# Altium integrated library Maxim Sensors.IntLib: 1171 symbols (part 14 of 61)
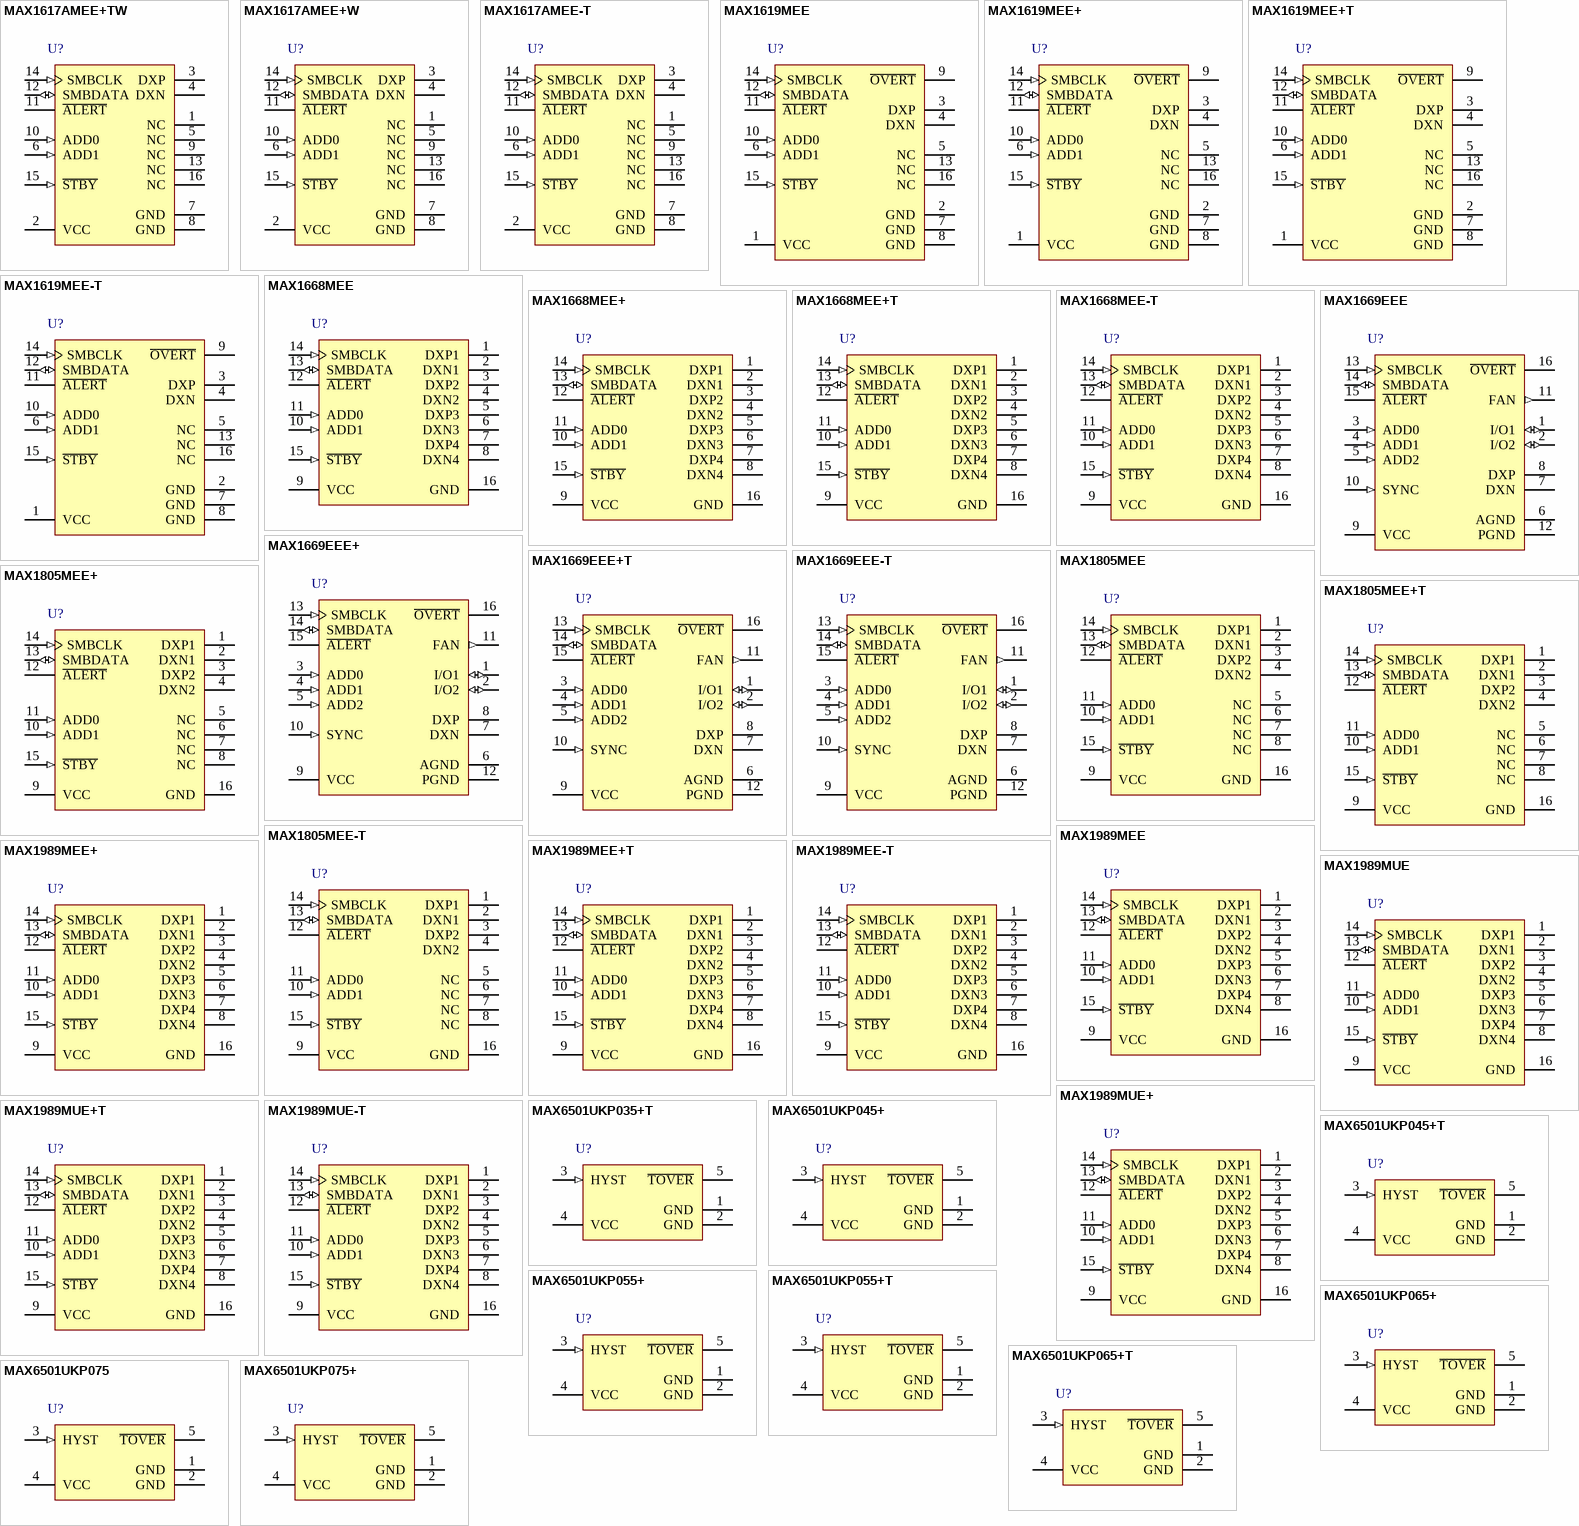
[diagram p46: symbols MAX1617AMEE+TW to MAX6501UKP075+]

## MAX1619MEE+
designator U?
Remote / Local Temperature Sensor with Dual-Alarm Outputs and SMBus Serial Interface, 8 Bits Temperature Resolution, -55 to 125 degC, 16-Pin SOP (E16+5), Pb-Free; Generic Part Number: MAX1619; PartNumber: MAX1619MEE+; Alarm Output: Alert, Overt; Functions: Remote & Local Sensor; Interface: 2-Wire/I2C/SMBus; Parasite Pwr.: No; DatasheetVersion: Rev. 0; PackageVersion: Rev. K, 04/2012; PackageReference: E16+5; PackageDescription: 16-Pin Quarter Small-Outline Package, Body 3.9 x 4.89 mm, Pitch 0.635 mm; Supplier 1: Digi-Key; Supplier Part Number 1: MAX1619MEE+-ND; Supplier 2: Mouser; Supplier Part Number 2: 700-MAX1619MEE+; Mounting Technology: Surface Mount; Code_JEDEC: MO-137; ComponentLink1Description: Manufacturer URL; ComponentLink1URL: http://www.maximintegrated.com/; ComponentLink2Description: Datasheet; ComponentLink2URL: http://datasheets.maximintegrated.com/en/ds/MAX1619.pdf; ComponentLink3Description: Package Specification; ComponentLink3URL: http://pdfserv.maximintegrated.com/package_dwgs/21-0055.PDF
footprint MAXM-E16+5_N (SOP, 16-Leads, Body 4.89x3.9mm, Pitch 0.635mm, IPC Medium Density)
footprint MAXM-E16+5_L (SOP, 16-Leads, Body 4.89x3.9mm, Pitch 0.635mm, IPC High Density)
footprint MAXM-E16+5_M (SOP, 16-Leads, Body 4.89x3.9mm, Pitch 0.635mm, IPC Low Density)
pins: 1 VCC (power) "Supply Voltage Input, 3V to 5.5V. Bypass to GND with a 0.1uF capacitor. A 200Ohm series resistor is recommended but not required for additional noise filtering.", 2 GND (power) "Not internally connected. Connect to GND to act against leakage paths from VCC to DXP.", 3 DXP "Combined Current Source and A/D Positive Input for Remote-Diode Channel. Do not leave DXP floating; connect DXP to DXN if no remote diode is used. Place a 2200pF capacitor between DXP and DXN for noise filtering.", 4 DXN "Combined Current Sink and A/D Negative Input. DXN is normally internally biased to a diode voltage above ground.", 5 NC "No Connection. Not internally connected. May be used for PC board trace routing.", 6 ADD1 (in) "SMBus Address Select Pin (Table 8). ADD0 and ADD1 are sampled upon power-up. Excess capacitance (>50pF) at the address pins when floating may cause address-recognition problems.", 7 GND (power) "Ground", 8 GND (power) "Ground", 9 ~{OVERT} (oc) "Overtemperature Alarm Output, Open Drain. This is an unlatched alarm output that responds only to the remote diode temperature.", 10 ADD0 (in) "SMBus Slave Address Select Pin", 11 ~{ALERT} (oc) "SMBus Alert (interrupt) Output, Open Drain", 12 SMBDATA (io) "SMBus Serial-Data Input/Output, Open Drain", 13 NC "No Connection. Not internally connected. May be used for PC board trace routing.", 14 SMBCLK (in) "SMBus Serial-Clock Input", 15 ~{STBY} (in) "Hardware Standby Input. Temperature and comparison threshold data are retained in standby mode.Low = standby mode, high = operate mode.", 16 NC "No Connection. Not internally connected. May be used for PC board trace routing."

## MAX1619MEE+T
designator U?
Remote / Local Temperature Sensor with Dual-Alarm Outputs and SMBus Serial Interface, 8 Bits Temperature Resolution, -55 to 125 degC, 16-Pin SOP (E16+5), Pb-Free, Tape and Reel; Generic Part Number: MAX1619; PartNumber: MAX1619MEE+T; Alarm Output: Alert, Overt; Functions: Remote & Local Sensor; Interface: 2-Wire/I2C/SMBus; Parasite Pwr.: No; DatasheetVersion: Rev. 0; PackageVersion: Rev. K, 04/2012; PackageReference: E16+5; PackageDescription: 16-Pin Quarter Small-Outline Package, Body 3.9 x 4.89 mm, Pitch 0.635 mm; Supplier 1: Digi-Key; Supplier Part Number 1: MAX1619MEE+T-ND; Supplier 2: Mouser; Supplier Part Number 2: 700-MAX1619MEE+T; Packing: Tape and Reel; Mounting Technology: Surface Mount; Code_JEDEC: MO-137; ComponentLink1Description: Manufacturer URL; ComponentLink1URL: http://www.maximintegrated.com/; ComponentLink2Description: Datasheet; ComponentLink2URL: http://datasheets.maximintegrated.com/en/ds/MAX1619.pdf; ComponentLink3Description: Package Specification; ComponentLink3URL: http://pdfserv.maximintegrated.com/package_dwgs/21-0055.PDF
footprint MAXM-E16+5_N (SOP, 16-Leads, Body 4.89x3.9mm, Pitch 0.635mm, IPC Medium Density)
footprint MAXM-E16+5_L (SOP, 16-Leads, Body 4.89x3.9mm, Pitch 0.635mm, IPC High Density)
footprint MAXM-E16+5_M (SOP, 16-Leads, Body 4.89x3.9mm, Pitch 0.635mm, IPC Low Density)
pins: 1 VCC (power) "Supply Voltage Input, 3V to 5.5V. Bypass to GND with a 0.1uF capacitor. A 200Ohm series resistor is recommended but not required for additional noise filtering.", 2 GND (power) "Not internally connected. Connect to GND to act against leakage paths from VCC to DXP.", 3 DXP "Combined Current Source and A/D Positive Input for Remote-Diode Channel. Do not leave DXP floating; connect DXP to DXN if no remote diode is used. Place a 2200pF capacitor between DXP and DXN for noise filtering.", 4 DXN "Combined Current Sink and A/D Negative Input. DXN is normally internally biased to a diode voltage above ground.", 5 NC "No Connection. Not internally connected. May be used for PC board trace routing.", 6 ADD1 (in) "SMBus Address Select Pin (Table 8). ADD0 and ADD1 are sampled upon power-up. Excess capacitance (>50pF) at the address pins when floating may cause address-recognition problems.", 7 GND (power) "Ground", 8 GND (power) "Ground", 9 ~{OVERT} (oc) "Overtemperature Alarm Output, Open Drain. This is an unlatched alarm output that responds only to the remote diode temperature.", 10 ADD0 (in) "SMBus Slave Address Select Pin", 11 ~{ALERT} (oc) "SMBus Alert (interrupt) Output, Open Drain", 12 SMBDATA (io) "SMBus Serial-Data Input/Output, Open Drain", 13 NC "No Connection. Not internally connected. May be used for PC board trace routing.", 14 SMBCLK (in) "SMBus Serial-Clock Input", 15 ~{STBY} (in) "Hardware Standby Input. Temperature and comparison threshold data are retained in standby mode.Low = standby mode, high = operate mode.", 16 NC "No Connection. Not internally connected. May be used for PC board trace routing."

## MAX1619MEE-T
designator U?
Remote / Local Temperature Sensor with Dual-Alarm Outputs and SMBus Serial Interface, 8 Bits Temperature Resolution, -55 to 125 degC, 16-Pin SOP (E16-5), Tape and Reel; Generic Part Number: MAX1619; PartNumber: MAX1619MEE-T; Alarm Output: Alert, Overt; Functions: Remote & Local Sensor; Interface: 2-Wire/I2C/SMBus; Parasite Pwr.: No; DatasheetVersion: Rev. 0; PackageVersion: Rev. K, 04/2012; PackageReference: E16-5; PackageDescription: 16-Pin Quarter Small-Outline Package, Body 3.9 x 4.89 mm, Pitch 0.635 mm; Supplier 1: Mouser; Supplier Part Number 1: N/A; Packing: Tape and Reel; Mounting Technology: Surface Mount; Code_JEDEC: MO-137; ComponentLink1Description: Manufacturer URL; ComponentLink1URL: http://www.maximintegrated.com/; ComponentLink2Description: Datasheet; ComponentLink2URL: http://datasheets.maximintegrated.com/en/ds/MAX1619.pdf; ComponentLink3Description: Package Specification; ComponentLink3URL: http://pdfserv.maximintegrated.com/package_dwgs/21-0055.PDF
footprint MAXM-E16-5_N (SOP, 16-Leads, Body 4.89x3.9mm, Pitch 0.635mm, IPC Medium Density)
footprint MAXM-E16-5_L (SOP, 16-Leads, Body 4.89x3.9mm, Pitch 0.635mm, IPC High Density)
footprint MAXM-E16-5_M (SOP, 16-Leads, Body 4.89x3.9mm, Pitch 0.635mm, IPC Low Density)
pins: 1 VCC (power) "Supply Voltage Input, 3V to 5.5V. Bypass to GND with a 0.1uF capacitor. A 200Ohm series resistor is recommended but not required for additional noise filtering.", 2 GND (power) "Not internally connected. Connect to GND to act against leakage paths from VCC to DXP.", 3 DXP "Combined Current Source and A/D Positive Input for Remote-Diode Channel. Do not leave DXP floating; connect DXP to DXN if no remote diode is used. Place a 2200pF capacitor between DXP and DXN for noise filtering.", 4 DXN "Combined Current Sink and A/D Negative Input. DXN is normally internally biased to a diode voltage above ground.", 5 NC "No Connection. Not internally connected. May be used for PC board trace routing.", 6 ADD1 (in) "SMBus Address Select Pin (Table 8). ADD0 and ADD1 are sampled upon power-up. Excess capacitance (>50pF) at the address pins when floating may cause address-recognition problems.", 7 GND (power) "Ground", 8 GND (power) "Ground", 9 ~{OVERT} (oc) "Overtemperature Alarm Output, Open Drain. This is an unlatched alarm output that responds only to the remote diode temperature.", 10 ADD0 (in) "SMBus Slave Address Select Pin", 11 ~{ALERT} (oc) "SMBus Alert (interrupt) Output, Open Drain", 12 SMBDATA (io) "SMBus Serial-Data Input/Output, Open Drain", 13 NC "No Connection. Not internally connected. May be used for PC board trace routing.", 14 SMBCLK (in) "SMBus Serial-Clock Input", 15 ~{STBY} (in) "Hardware Standby Input. Temperature and comparison threshold data are retained in standby mode.Low = standby mode, high = operate mode.", 16 NC "No Connection. Not internally connected. May be used for PC board trace routing."

## MAX1668MEE
designator U?
Five-Channel Temperature Sensor with SMBus Serial Interface, 8 Bits Temperature Resolution, -55 to 125 degC, 16-Pin SOP (E16-1); Generic Part Number: MAX1668; PartNumber: MAX1668MEE; Alarm Output: Alert; Functions: Remote & Local Sensor; Interface: 2-Wire/I2C/SMBus; Parasite Pwr.: No; DatasheetVersion: Rev. 2; PackageVersion: Rev. K, 04/2012; PackageReference: E16-1; PackageDescription: 16-Pin Quarter Small-Outline Package (E16-1), Body 4.90 x 3.89 mm, Pitch 0.635 mm; Supplier 1: Digi-Key; Supplier Part Number 1: MAX1668MEE-ND; Supplier 2: Mouser; Supplier Part Number 2: N/A; Mounting Technology: Surface Mount; Code_JEDEC: MO137; ComponentLink1Description: Manufacturer URL; ComponentLink1URL: http://www.maximintegrated.com/; ComponentLink2Description: Datasheet; ComponentLink2URL: http://datasheets.maximintegrated.com/en/ds/MAX1668-MAX1989.pdf; ComponentLink3Description: Package Specification; ComponentLink3URL: http://pdfserv.maximintegrated.com/package_dwgs/21-0055.PDF
footprint MAXM-E16-1_N (SOP, 16-Leads, Body 4.9x3.89mm, Pitch 0.635mm, IPC Medium Density)
footprint MAXM-E16-1_L (SOP, 16-Leads, Body 4.9x3.89mm, Pitch 0.635mm, IPC High Density)
footprint MAXM-E16-1_M (SOP, 16-Leads, Body 4.9x3.89mm, Pitch 0.635mm, IPC Low Density)
pins: 1 DXP1 "Combined Current Source and A/D Positive Input for Remote-Diode Channel. Do not leave DXP floating; connect DXP to DXN if no remote diode is used. Place a 2200pF capacitor between DXP and DXN for noise filtering.", 2 DXN1 "Combined Current Sink and A/D Negative Input. DXN is normally biased to a diode voltage above ground.", 3 DXP2 "Combined Current Source and A/D Positive Input for Remote-Diode Channel. Do not leave DXP floating; connect DXP to DXN if no remote diode is used. Place a 2200pF capacitor between DXP and DXN for noise filtering.", 4 DXN2 "Combined Current Sink and A/D Negative Input. DXN is normally biased to a diode voltage above ground.", 5 DXP3 "Combined Current Source and A/D Positive Input for Remote-Diode Channel. Do not leave DXP floating; connect DXP to DXN if no remote diode is used. Place a 2200pF capacitor between DXP and DXN for noise filtering.", 6 DXN3 "Combined Current Sink and A/D Negative Input. DXN is normally biased to a diode voltage above ground.", 7 DXP4 "Combined Current Source and A/D Positive Input for Remote-Diode Channel. Do not leave DXP floating; connect DXP to DXN if no remote diode is used. Place a 2200pF capacitor between DXP and DXN for noise filtering.", 8 DXN4 "Combined Current Sink and A/D Negative Input. DXN is normally biased to a diode voltage above ground.", 9 VCC (power) "Supply Voltage Input, 3V to 5.5V. Bypass to GND with a 0.1µF capacitor. A 200ohm series resistor is recommended but not required for additional noise filtering.", 10 ADD1 (in) "SMBus Address Select Pin (Table 8). ADD0 and ADD1 are sampled upon power-up. Excess capacitance (>50pF) at the address pins when floating can cause addressrecognition problems.", 11 ADD0 (in) "SMBus Slave Address Select Pin", 12 ~{ALERT} (oc) "SMBus Alert (Interrupt) Output, Open Drain", 13 SMBDATA (io) "SMBus Serial-Data Input/Output, Open Drain", 14 SMBCLK (in) "SMBus Serial-Clock Input", 15 ~{STBY} (in) "Hardware Standby Input. Temperature and comparison threshold data are retained in standby mode. Low = standby mode, high = operate mode.", 16 GND (power) "Ground"

## MAX1668MEE+
designator U?
Five-Channel Temperature Sensor with SMBus Serial Interface, 8 Bits Temperature Resolution, -55 to 125 degC, 16-Pin SOP (E16+1), Pb-Free; Generic Part Number: MAX1668; PartNumber: MAX1668MEE+; Alarm Output: Alert; Functions: Remote & Local Sensor; Interface: 2-Wire/I2C/SMBus; Parasite Pwr.: No; DatasheetVersion: Rev. 2; PackageVersion: Rev. K, 04/2012; PackageReference: E16+1; PackageDescription: 16-Pin Quarter Small-Outline Package (E16+1), Body 4.90 x 3.89 mm, Pitch 0.635 mm; Supplier 1: Digi-Key; Supplier Part Number 1: MAX1668MEE+-ND; Supplier 2: Mouser; Supplier Part Number 2: 700-MAX1668MEE; Mounting Technology: Surface Mount; Code_JEDEC: MO137; ComponentLink1Description: Manufacturer URL; ComponentLink1URL: http://www.maximintegrated.com/; ComponentLink2Description: Datasheet; ComponentLink2URL: http://datasheets.maximintegrated.com/en/ds/MAX1668-MAX1989.pdf; ComponentLink3Description: Package Specification; ComponentLink3URL: http://pdfserv.maximintegrated.com/package_dwgs/21-0055.PDF
footprint MAXM-E16+1_N (SOP, 16-Leads, Body 4.9x3.89mm, Pitch 0.635mm, IPC Medium Density)
footprint MAXM-E16+1_L (SOP, 16-Leads, Body 4.9x3.89mm, Pitch 0.635mm, IPC High Density)
footprint MAXM-E16+1_M (SOP, 16-Leads, Body 4.9x3.89mm, Pitch 0.635mm, IPC Low Density)
pins: 1 DXP1 "Combined Current Source and A/D Positive Input for Remote-Diode Channel. Do not leave DXP floating; connect DXP to DXN if no remote diode is used. Place a 2200pF capacitor between DXP and DXN for noise filtering.", 2 DXN1 "Combined Current Sink and A/D Negative Input. DXN is normally biased to a diode voltage above ground.", 3 DXP2 "Combined Current Source and A/D Positive Input for Remote-Diode Channel. Do not leave DXP floating; connect DXP to DXN if no remote diode is used. Place a 2200pF capacitor between DXP and DXN for noise filtering.", 4 DXN2 "Combined Current Sink and A/D Negative Input. DXN is normally biased to a diode voltage above ground.", 5 DXP3 "Combined Current Source and A/D Positive Input for Remote-Diode Channel. Do not leave DXP floating; connect DXP to DXN if no remote diode is used. Place a 2200pF capacitor between DXP and DXN for noise filtering.", 6 DXN3 "Combined Current Sink and A/D Negative Input. DXN is normally biased to a diode voltage above ground.", 7 DXP4 "Combined Current Source and A/D Positive Input for Remote-Diode Channel. Do not leave DXP floating; connect DXP to DXN if no remote diode is used. Place a 2200pF capacitor between DXP and DXN for noise filtering.", 8 DXN4 "Combined Current Sink and A/D Negative Input. DXN is normally biased to a diode voltage above ground.", 9 VCC (power) "Supply Voltage Input, 3V to 5.5V. Bypass to GND with a 0.1µF capacitor. A 200ohm series resistor is recommended but not required for additional noise filtering.", 10 ADD1 (in) "SMBus Address Select Pin (Table 8). ADD0 and ADD1 are sampled upon power-up. Excess capacitance (>50pF) at the address pins when floating can cause addressrecognition problems.", 11 ADD0 (in) "SMBus Slave Address Select Pin", 12 ~{ALERT} (oc) "SMBus Alert (Interrupt) Output, Open Drain", 13 SMBDATA (io) "SMBus Serial-Data Input/Output, Open Drain", 14 SMBCLK (in) "SMBus Serial-Clock Input", 15 ~{STBY} (in) "Hardware Standby Input. Temperature and comparison threshold data are retained in standby mode. Low = standby mode, high = operate mode.", 16 GND (power) "Ground"

## MAX1668MEE+T
designator U?
Five-Channel Temperature Sensor with SMBus Serial Interface, 8 Bits Temperature Resolution, -55 to 125 degC, 16-Pin SOP (E16+1), Pb-Free, Tape and Reel; Generic Part Number: MAX1668; PartNumber: MAX1668MEE+T; Alarm Output: Alert; Functions: Remote & Local Sensor; Interface: 2-Wire/I2C/SMBus; Parasite Pwr.: No; DatasheetVersion: Rev. 2; PackageVersion: Rev. K, 04/2012; PackageReference: E16+1; PackageDescription: 16-Pin Quarter Small-Outline Package (E16+1), Body 4.90 x 3.89 mm, Pitch 0.635 mm; Supplier 1: Digi-Key; Supplier Part Number 1: MAX1668MEE+T-ND; Supplier 2: Mouser; Supplier Part Number 2: 700-MAX1668MEET; Packing: Tape and Reel; Mounting Technology: Surface Mount; Code_JEDEC: MO137; ComponentLink1Description: Manufacturer URL; ComponentLink1URL: http://www.maximintegrated.com/; ComponentLink2Description: Datasheet; ComponentLink2URL: http://datasheets.maximintegrated.com/en/ds/MAX1668-MAX1989.pdf; ComponentLink3Description: Package Specification; ComponentLink3URL: http://pdfserv.maximintegrated.com/package_dwgs/21-0055.PDF
footprint MAXM-E16+1_N (SOP, 16-Leads, Body 4.9x3.89mm, Pitch 0.635mm, IPC Medium Density)
footprint MAXM-E16+1_L (SOP, 16-Leads, Body 4.9x3.89mm, Pitch 0.635mm, IPC High Density)
footprint MAXM-E16+1_M (SOP, 16-Leads, Body 4.9x3.89mm, Pitch 0.635mm, IPC Low Density)
pins: 1 DXP1 "Combined Current Source and A/D Positive Input for Remote-Diode Channel. Do not leave DXP floating; connect DXP to DXN if no remote diode is used. Place a 2200pF capacitor between DXP and DXN for noise filtering.", 2 DXN1 "Combined Current Sink and A/D Negative Input. DXN is normally biased to a diode voltage above ground.", 3 DXP2 "Combined Current Source and A/D Positive Input for Remote-Diode Channel. Do not leave DXP floating; connect DXP to DXN if no remote diode is used. Place a 2200pF capacitor between DXP and DXN for noise filtering.", 4 DXN2 "Combined Current Sink and A/D Negative Input. DXN is normally biased to a diode voltage above ground.", 5 DXP3 "Combined Current Source and A/D Positive Input for Remote-Diode Channel. Do not leave DXP floating; connect DXP to DXN if no remote diode is used. Place a 2200pF capacitor between DXP and DXN for noise filtering.", 6 DXN3 "Combined Current Sink and A/D Negative Input. DXN is normally biased to a diode voltage above ground.", 7 DXP4 "Combined Current Source and A/D Positive Input for Remote-Diode Channel. Do not leave DXP floating; connect DXP to DXN if no remote diode is used. Place a 2200pF capacitor between DXP and DXN for noise filtering.", 8 DXN4 "Combined Current Sink and A/D Negative Input. DXN is normally biased to a diode voltage above ground.", 9 VCC (power) "Supply Voltage Input, 3V to 5.5V. Bypass to GND with a 0.1µF capacitor. A 200ohm series resistor is recommended but not required for additional noise filtering.", 10 ADD1 (in) "SMBus Address Select Pin (Table 8). ADD0 and ADD1 are sampled upon power-up. Excess capacitance (>50pF) at the address pins when floating can cause addressrecognition problems.", 11 ADD0 (in) "SMBus Slave Address Select Pin", 12 ~{ALERT} (oc) "SMBus Alert (Interrupt) Output, Open Drain", 13 SMBDATA (io) "SMBus Serial-Data Input/Output, Open Drain", 14 SMBCLK (in) "SMBus Serial-Clock Input", 15 ~{STBY} (in) "Hardware Standby Input. Temperature and comparison threshold data are retained in standby mode. Low = standby mode, high = operate mode.", 16 GND (power) "Ground"

## MAX1668MEE-T
designator U?
Five-Channel Temperature Sensor with SMBus Serial Interface, 8 Bits Temperature Resolution, -55 to 125 degC, 16-Pin SOP (E16-1), Tape and Reel; Generic Part Number: MAX1668; PartNumber: MAX1668MEE-T; Alarm Output: Alert; Functions: Remote & Local Sensor; Interface: 2-Wire/I2C/SMBus; Parasite Pwr.: No; DatasheetVersion: Rev. 2; PackageVersion: Rev. K, 04/2012; PackageReference: E16-1; PackageDescription: 16-Pin Quarter Small-Outline Package (E16-1), Body 4.90 x 3.89 mm, Pitch 0.635 mm; Supplier 1: Mouser; Supplier Part Number 1: N/A; Packing: Tape and Reel; Mounting Technology: Surface Mount; Code_JEDEC: MO137; ComponentLink1Description: Manufacturer URL; ComponentLink1URL: http://www.maximintegrated.com/; ComponentLink2Description: Datasheet; ComponentLink2URL: http://datasheets.maximintegrated.com/en/ds/MAX1668-MAX1989.pdf; ComponentLink3Description: Package Specification; ComponentLink3URL: http://pdfserv.maximintegrated.com/package_dwgs/21-0055.PDF
footprint MAXM-E16-1_N (SOP, 16-Leads, Body 4.9x3.89mm, Pitch 0.635mm, IPC Medium Density)
footprint MAXM-E16-1_L (SOP, 16-Leads, Body 4.9x3.89mm, Pitch 0.635mm, IPC High Density)
footprint MAXM-E16-1_M (SOP, 16-Leads, Body 4.9x3.89mm, Pitch 0.635mm, IPC Low Density)
pins: 1 DXP1 "Combined Current Source and A/D Positive Input for Remote-Diode Channel. Do not leave DXP floating; connect DXP to DXN if no remote diode is used. Place a 2200pF capacitor between DXP and DXN for noise filtering.", 2 DXN1 "Combined Current Sink and A/D Negative Input. DXN is normally biased to a diode voltage above ground.", 3 DXP2 "Combined Current Source and A/D Positive Input for Remote-Diode Channel. Do not leave DXP floating; connect DXP to DXN if no remote diode is used. Place a 2200pF capacitor between DXP and DXN for noise filtering.", 4 DXN2 "Combined Current Sink and A/D Negative Input. DXN is normally biased to a diode voltage above ground.", 5 DXP3 "Combined Current Source and A/D Positive Input for Remote-Diode Channel. Do not leave DXP floating; connect DXP to DXN if no remote diode is used. Place a 2200pF capacitor between DXP and DXN for noise filtering.", 6 DXN3 "Combined Current Sink and A/D Negative Input. DXN is normally biased to a diode voltage above ground.", 7 DXP4 "Combined Current Source and A/D Positive Input for Remote-Diode Channel. Do not leave DXP floating; connect DXP to DXN if no remote diode is used. Place a 2200pF capacitor between DXP and DXN for noise filtering.", 8 DXN4 "Combined Current Sink and A/D Negative Input. DXN is normally biased to a diode voltage above ground.", 9 VCC (power) "Supply Voltage Input, 3V to 5.5V. Bypass to GND with a 0.1µF capacitor. A 200ohm series resistor is recommended but not required for additional noise filtering.", 10 ADD1 (in) "SMBus Address Select Pin (Table 8). ADD0 and ADD1 are sampled upon power-up. Excess capacitance (>50pF) at the address pins when floating can cause addressrecognition problems.", 11 ADD0 (in) "SMBus Slave Address Select Pin", 12 ~{ALERT} (oc) "SMBus Alert (Interrupt) Output, Open Drain", 13 SMBDATA (io) "SMBus Serial-Data Input/Output, Open Drain", 14 SMBCLK (in) "SMBus Serial-Clock Input", 15 ~{STBY} (in) "Hardware Standby Input. Temperature and comparison threshold data are retained in standby mode. Low = standby mode, high = operate mode.", 16 GND (power) "Ground"

## MAX1669EEE
designator U?
Remote Temperature Sensor and Fan Controller with SMBus Serial Interface, 8 Bits Tempearture Resolution, -40 to 85 degC, 16-Pin SOP (E16-1); Generic Part Number: MAX1669; PartNumber: MAX1669EEE; Fan Cntrl.: PWM; Interface: 2-Wire/I2C/SMBus; DatasheetVersion: Rev. 0; PackageVersion: Rev. K, 04/2012; PackageReference: E16-1; PackageDescription: 16-Pin Quarter Small-Outline Package (E16-1), Body 4.90 x 3.89 mm, Pitch 0.635 mm; Supplier 1: Mouser; Supplier Part Number 1: N/A; Mounting Technology: Surface Mount; Code_JEDEC: MO137; ComponentLink1Description: Manufacturer URL; ComponentLink1URL: http://www.maximintegrated.com/; ComponentLink2Description: Datasheet; ComponentLink2URL: http://datasheets.maximintegrated.com/en/ds/MAX1669.pdf; ComponentLink3Description: Package Specification; ComponentLink3URL: http://pdfserv.maximintegrated.com/package_dwgs/21-0055.PDF
footprint MAXM-E16-1_N (SOP, 16-Leads, Body 4.9x3.89mm, Pitch 0.635mm, IPC Medium Density)
footprint MAXM-E16-1_L (SOP, 16-Leads, Body 4.9x3.89mm, Pitch 0.635mm, IPC High Density)
footprint MAXM-E16-1_M (SOP, 16-Leads, Body 4.9x3.89mm, Pitch 0.635mm, IPC Low Density)
pins: 1 I/O1 (io) "General-Purpose Open-Drain Logic Input/Output 1. I/O1 is intended for driving LEDs, driving power-plane switching MOSFETs, or detecting fan presence or chassis intrusion.", 2 I/O2 (io) "General-Purpose Open-Drain Logic Input/Output 2. I/O2 is intended for driving LEDs, driving power-plane switching MOSFETs, or detecting fan presence or chassis intrusion.", 3 ADD0 (in) "SMBus Address Select Pin 0.", 4 ADD1 (in) "SMBus Address Select Pin 1.", 5 ADD2 (in) "SMBus Address Select Pin 2.", 6 AGND (power) "Analog Ground", 7 DXN "Combined Current Sink and ADC Negative Input from Remote Diode. DXN is normally biased to a diode voltage above ground.", 8 DXP "Combined Current Source and ADC Positive Input from Remote Diode. Place a 2200pF capacitor between DXP and DXN for noise filtering.", 9 VCC (power) "Supply Voltage Input, +3V to +5.5V. Bypass to AGND with a 0.1uF capacitor.", 10 SYNC (in) "Oscillator Synchronization Input. Connect to AGND to use internal clock. Capture range is 140kHz to 400kHz. The synchronization signal is internally applied to the FAN PWM clock. See Table 5 for synchronized frequencies.", 11 FAN (out) "Fan-Control Logic Output. Swings from PGND to VCC in PWM mode, or PGND to 0.94 · VCC in DAC mode.", 12 PGND (power) "Power Ground", 13 SMBCLK (in) "SMBus Serial-Clock Input", 14 SMBDATA (io) "Open-Drain SMBus Serial-Data Input/Output", 15 ~{ALERT} (hiz) "Active-Low, Open-Drain SMBus Alert (interrupt) Output", 16 ~{OVERT} (hiz) "Active-Low, Open-Drain Thermostat Output. Activated by TCRIT threshold"

## MAX1669EEE+
designator U?
Remote Temperature Sensor and Fan Controller with SMBus Serial Interface, 8 Bits Tempearture Resolution, -40 to 85 degC, 16-Pin SOP (E16+1), Pb-Free; Generic Part Number: MAX1669; PartNumber: MAX1669EEE+; Fan Cntrl.: PWM; Interface: 2-Wire/I2C/SMBus; DatasheetVersion: Rev. 0; PackageVersion: Rev. K, 04/2012; PackageReference: E16+1; PackageDescription: 16-Pin Quarter Small-Outline Package (E16+1), Body 4.90 x 3.89 mm, Pitch 0.635 mm; Supplier 1: Mouser; Supplier Part Number 1: N/A; Mounting Technology: Surface Mount; Code_JEDEC: MO137; ComponentLink1Description: Manufacturer URL; ComponentLink1URL: http://www.maximintegrated.com/; ComponentLink2Description: Datasheet; ComponentLink2URL: http://datasheets.maximintegrated.com/en/ds/MAX1669.pdf; ComponentLink3Description: Package Specification; ComponentLink3URL: http://pdfserv.maximintegrated.com/package_dwgs/21-0055.PDF
footprint MAXM-E16+1_N (SOP, 16-Leads, Body 4.9x3.89mm, Pitch 0.635mm, IPC Medium Density)
footprint MAXM-E16+1_L (SOP, 16-Leads, Body 4.9x3.89mm, Pitch 0.635mm, IPC High Density)
footprint MAXM-E16+1_M (SOP, 16-Leads, Body 4.9x3.89mm, Pitch 0.635mm, IPC Low Density)
pins: 1 I/O1 (io) "General-Purpose Open-Drain Logic Input/Output 1. I/O1 is intended for driving LEDs, driving power-plane switching MOSFETs, or detecting fan presence or chassis intrusion.", 2 I/O2 (io) "General-Purpose Open-Drain Logic Input/Output 2. I/O2 is intended for driving LEDs, driving power-plane switching MOSFETs, or detecting fan presence or chassis intrusion.", 3 ADD0 (in) "SMBus Address Select Pin 0.", 4 ADD1 (in) "SMBus Address Select Pin 1.", 5 ADD2 (in) "SMBus Address Select Pin 2.", 6 AGND (power) "Analog Ground", 7 DXN "Combined Current Sink and ADC Negative Input from Remote Diode. DXN is normally biased to a diode voltage above ground.", 8 DXP "Combined Current Source and ADC Positive Input from Remote Diode. Place a 2200pF capacitor between DXP and DXN for noise filtering.", 9 VCC (power) "Supply Voltage Input, +3V to +5.5V. Bypass to AGND with a 0.1uF capacitor.", 10 SYNC (in) "Oscillator Synchronization Input. Connect to AGND to use internal clock. Capture range is 140kHz to 400kHz. The synchronization signal is internally applied to the FAN PWM clock. See Table 5 for synchronized frequencies.", 11 FAN (out) "Fan-Control Logic Output. Swings from PGND to VCC in PWM mode, or PGND to 0.94 · VCC in DAC mode.", 12 PGND (power) "Power Ground", 13 SMBCLK (in) "SMBus Serial-Clock Input", 14 SMBDATA (io) "Open-Drain SMBus Serial-Data Input/Output", 15 ~{ALERT} (hiz) "Active-Low, Open-Drain SMBus Alert (interrupt) Output", 16 ~{OVERT} (hiz) "Active-Low, Open-Drain Thermostat Output. Activated by TCRIT threshold"

## MAX1669EEE+T
designator U?
Remote Temperature Sensor and Fan Controller with SMBus Serial Interface, 8 Bits Tempearture Resolution, -40 to 85 degC, 16-Pin SOP (E16+1), Pb-Free, Tape and Reel; Generic Part Number: MAX1669; PartNumber: MAX1669EEE+T; Fan Cntrl.: PWM; Interface: 2-Wire/I2C/SMBus; DatasheetVersion: Rev. 0; PackageVersion: Rev. K, 04/2012; PackageReference: E16+1; PackageDescription: 16-Pin Quarter Small-Outline Package (E16+1), Body 4.90 x 3.89 mm, Pitch 0.635 mm; Supplier 1: Mouser; Supplier Part Number 1: N/A; Packing: Tape and Reel; Mounting Technology: Surface Mount; Code_JEDEC: MO137; ComponentLink1Description: Manufacturer URL; ComponentLink1URL: http://www.maximintegrated.com/; ComponentLink2Description: Datasheet; ComponentLink2URL: http://datasheets.maximintegrated.com/en/ds/MAX1669.pdf; ComponentLink3Description: Package Specification; ComponentLink3URL: http://pdfserv.maximintegrated.com/package_dwgs/21-0055.PDF
footprint MAXM-E16+1_N (SOP, 16-Leads, Body 4.9x3.89mm, Pitch 0.635mm, IPC Medium Density)
footprint MAXM-E16+1_L (SOP, 16-Leads, Body 4.9x3.89mm, Pitch 0.635mm, IPC High Density)
footprint MAXM-E16+1_M (SOP, 16-Leads, Body 4.9x3.89mm, Pitch 0.635mm, IPC Low Density)
pins: 1 I/O1 (io) "General-Purpose Open-Drain Logic Input/Output 1. I/O1 is intended for driving LEDs, driving power-plane switching MOSFETs, or detecting fan presence or chassis intrusion.", 2 I/O2 (io) "General-Purpose Open-Drain Logic Input/Output 2. I/O2 is intended for driving LEDs, driving power-plane switching MOSFETs, or detecting fan presence or chassis intrusion.", 3 ADD0 (in) "SMBus Address Select Pin 0.", 4 ADD1 (in) "SMBus Address Select Pin 1.", 5 ADD2 (in) "SMBus Address Select Pin 2.", 6 AGND (power) "Analog Ground", 7 DXN "Combined Current Sink and ADC Negative Input from Remote Diode. DXN is normally biased to a diode voltage above ground.", 8 DXP "Combined Current Source and ADC Positive Input from Remote Diode. Place a 2200pF capacitor between DXP and DXN for noise filtering.", 9 VCC (power) "Supply Voltage Input, +3V to +5.5V. Bypass to AGND with a 0.1uF capacitor.", 10 SYNC (in) "Oscillator Synchronization Input. Connect to AGND to use internal clock. Capture range is 140kHz to 400kHz. The synchronization signal is internally applied to the FAN PWM clock. See Table 5 for synchronized frequencies.", 11 FAN (out) "Fan-Control Logic Output. Swings from PGND to VCC in PWM mode, or PGND to 0.94 · VCC in DAC mode.", 12 PGND (power) "Power Ground", 13 SMBCLK (in) "SMBus Serial-Clock Input", 14 SMBDATA (io) "Open-Drain SMBus Serial-Data Input/Output", 15 ~{ALERT} (hiz) "Active-Low, Open-Drain SMBus Alert (interrupt) Output", 16 ~{OVERT} (hiz) "Active-Low, Open-Drain Thermostat Output. Activated by TCRIT threshold"

## MAX1669EEE-T
designator U?
Remote Temperature Sensor and Fan Controller with SMBus Serial Interface, 8 Bits Tempearture Resolution, -40 to 85 degC, 16-Pin SOP (E16-1), Tape and Reel; Generic Part Number: MAX1669; PartNumber: MAX1669EEE-T; Fan Cntrl.: PWM; Interface: 2-Wire/I2C/SMBus; DatasheetVersion: Rev. 0; PackageVersion: Rev. K, 04/2012; PackageReference: E16-1; PackageDescription: 16-Pin Quarter Small-Outline Package (E16-1), Body 4.90 x 3.89 mm, Pitch 0.635 mm; Supplier 1: Mouser; Supplier Part Number 1: N/A; Packing: Tape and Reel; Mounting Technology: Surface Mount; Code_JEDEC: MO137; ComponentLink1Description: Manufacturer URL; ComponentLink1URL: http://www.maximintegrated.com/; ComponentLink2Description: Datasheet; ComponentLink2URL: http://datasheets.maximintegrated.com/en/ds/MAX1669.pdf; ComponentLink3Description: Package Specification; ComponentLink3URL: http://pdfserv.maximintegrated.com/package_dwgs/21-0055.PDF
footprint MAXM-E16-1_N (SOP, 16-Leads, Body 4.9x3.89mm, Pitch 0.635mm, IPC Medium Density)
footprint MAXM-E16-1_L (SOP, 16-Leads, Body 4.9x3.89mm, Pitch 0.635mm, IPC High Density)
footprint MAXM-E16-1_M (SOP, 16-Leads, Body 4.9x3.89mm, Pitch 0.635mm, IPC Low Density)
pins: 1 I/O1 (io) "General-Purpose Open-Drain Logic Input/Output 1. I/O1 is intended for driving LEDs, driving power-plane switching MOSFETs, or detecting fan presence or chassis intrusion.", 2 I/O2 (io) "General-Purpose Open-Drain Logic Input/Output 2. I/O2 is intended for driving LEDs, driving power-plane switching MOSFETs, or detecting fan presence or chassis intrusion.", 3 ADD0 (in) "SMBus Address Select Pin 0.", 4 ADD1 (in) "SMBus Address Select Pin 1.", 5 ADD2 (in) "SMBus Address Select Pin 2.", 6 AGND (power) "Analog Ground", 7 DXN "Combined Current Sink and ADC Negative Input from Remote Diode. DXN is normally biased to a diode voltage above ground.", 8 DXP "Combined Current Source and ADC Positive Input from Remote Diode. Place a 2200pF capacitor between DXP and DXN for noise filtering.", 9 VCC (power) "Supply Voltage Input, +3V to +5.5V. Bypass to AGND with a 0.1uF capacitor.", 10 SYNC (in) "Oscillator Synchronization Input. Connect to AGND to use internal clock. Capture range is 140kHz to 400kHz. The synchronization signal is internally applied to the FAN PWM clock. See Table 5 for synchronized frequencies.", 11 FAN (out) "Fan-Control Logic Output. Swings from PGND to VCC in PWM mode, or PGND to 0.94 · VCC in DAC mode.", 12 PGND (power) "Power Ground", 13 SMBCLK (in) "SMBus Serial-Clock Input", 14 SMBDATA (io) "Open-Drain SMBus Serial-Data Input/Output", 15 ~{ALERT} (hiz) "Active-Low, Open-Drain SMBus Alert (interrupt) Output", 16 ~{OVERT} (hiz) "Active-Low, Open-Drain Thermostat Output. Activated by TCRIT threshold"

## MAX1805MEE
designator U?
Three-Channel Temperature Sensor with SMBus Serial Interface, 8 Bits Temperature Resolution, -55 to 125 degC, 16-Pin SOP (E16-1); Generic Part Number: MAX1805; PartNumber: MAX1805MEE; Alarm Output: Alert; Functions: Remote & Local Sensor; Interface: 2-Wire/I2C/SMBus; Parasite Pwr.: No; DatasheetVersion: Rev. 2; PackageVersion: Rev. K, 04/2012; PackageReference: E16-1; PackageDescription: 16-Pin Quarter Small-Outline Package (E16-1), Body 4.90 x 3.89 mm, Pitch 0.635 mm; Supplier 1: Mouser; Supplier Part Number 1: N/A; Mounting Technology: Surface Mount; Code_JEDEC: MO137; ComponentLink1Description: Manufacturer URL; ComponentLink1URL: http://www.maximintegrated.com/; ComponentLink2Description: Datasheet; ComponentLink2URL: http://datasheets.maximintegrated.com/en/ds/MAX1668-MAX1989.pdf; ComponentLink3Description: Package Specification; ComponentLink3URL: http://pdfserv.maximintegrated.com/package_dwgs/21-0055.PDF
footprint MAXM-E16-1_N (SOP, 16-Leads, Body 4.9x3.89mm, Pitch 0.635mm, IPC Medium Density)
footprint MAXM-E16-1_L (SOP, 16-Leads, Body 4.9x3.89mm, Pitch 0.635mm, IPC High Density)
footprint MAXM-E16-1_M (SOP, 16-Leads, Body 4.9x3.89mm, Pitch 0.635mm, IPC Low Density)
pins: 1 DXP1 "Combined Current Source and A/D Positive Input for Remote-Diode Channel. Do not leave DXP floating; connect DXP to DXN if no remote diode is used. Place a 2200pF capacitor between DXP and DXN for noise filtering.", 2 DXN1 "Combined Current Sink and A/D Negative Input. DXN is normally biased to a diode voltage above ground.", 3 DXP2 "Combined Current Source and A/D Positive Input for Remote-Diode Channel. Do not leave DXP floating; connect DXP to DXN if no remote diode is used. Place a 2200pF capacitor between DXP and DXN for noise filtering.", 4 DXN2 "Combined Current Sink and A/D Negative Input. DXN is normally biased to a diode voltage above ground.", 5 NC "No Connection. Not internally connected. Can be used for PC board trace routing.", 6 NC "No Connection. Not internally connected. Can be used for PC board trace routing.", 7 NC "No Connection. Not internally connected. Can be used for PC board trace routing.", 8 NC "No Connection. Not internally connected. Can be used for PC board trace routing.", 9 VCC (power) "Supply Voltage Input, 3V to 5.5V. Bypass to GND with a 0.1uF capacitor. A 200ohm series resistor is recommended but not required for additional noise filtering.", 10 ADD1 (in) "SMBus Address Select Pin (Table 8). ADD0 and ADD1 are sampled upon power-up. Excess capacitance (>50pF) at the address pins when floating can cause addressrecognition problems.", 11 ADD0 (in) "SMBus Slave Address Select Pin", 12 ~{ALERT} (oc) "SMBus Alert (Interrupt) Output, Open Drain", 13 SMBDATA (io) "SMBus Serial-Data Input/Output, Open Drain", 14 SMBCLK (in) "SMBus Serial-Clock Input", 15 ~{STBY} (in) "Hardware Standby Input. Temperature and comparison threshold data are retained in standby mode. Low = standby mode, high = operate mode.", 16 GND (power) "Ground"

## MAX1805MEE+
designator U?
Three-Channel Temperature Sensor with SMBus Serial Interface, 8 Bits Temperature Resolution, -55 to 125 degC, 16-Pin SOP (E16+1), Pb-Free; Generic Part Number: MAX1805; PartNumber: MAX1805MEE+; Alarm Output: Alert; Functions: Remote & Local Sensor; Interface: 2-Wire/I2C/SMBus; Parasite Pwr.: No; DatasheetVersion: Rev. 2; PackageVersion: Rev. K, 04/2012; PackageReference: E16+1; PackageDescription: 16-Pin Quarter Small-Outline Package (E16+1), Body 4.90 x 3.89 mm, Pitch 0.635 mm; Supplier 1: Digi-Key; Supplier Part Number 1: MAX1805MEE+-ND; Supplier 2: Mouser; Supplier Part Number 2: 700-MAX1805MEE; Mounting Technology: Surface Mount; Code_JEDEC: MO137; ComponentLink1Description: Manufacturer URL; ComponentLink1URL: http://www.maximintegrated.com/; ComponentLink2Description: Datasheet; ComponentLink2URL: http://datasheets.maximintegrated.com/en/ds/MAX1668-MAX1989.pdf; ComponentLink3Description: Package Specification; ComponentLink3URL: http://pdfserv.maximintegrated.com/package_dwgs/21-0055.PDF
footprint MAXM-E16+1_N (SOP, 16-Leads, Body 4.9x3.89mm, Pitch 0.635mm, IPC Medium Density)
footprint MAXM-E16+1_L (SOP, 16-Leads, Body 4.9x3.89mm, Pitch 0.635mm, IPC High Density)
footprint MAXM-E16+1_M (SOP, 16-Leads, Body 4.9x3.89mm, Pitch 0.635mm, IPC Low Density)
pins: 1 DXP1 "Combined Current Source and A/D Positive Input for Remote-Diode Channel. Do not leave DXP floating; connect DXP to DXN if no remote diode is used. Place a 2200pF capacitor between DXP and DXN for noise filtering.", 2 DXN1 "Combined Current Sink and A/D Negative Input. DXN is normally biased to a diode voltage above ground.", 3 DXP2 "Combined Current Source and A/D Positive Input for Remote-Diode Channel. Do not leave DXP floating; connect DXP to DXN if no remote diode is used. Place a 2200pF capacitor between DXP and DXN for noise filtering.", 4 DXN2 "Combined Current Sink and A/D Negative Input. DXN is normally biased to a diode voltage above ground.", 5 NC "No Connection. Not internally connected. Can be used for PC board trace routing.", 6 NC "No Connection. Not internally connected. Can be used for PC board trace routing.", 7 NC "No Connection. Not internally connected. Can be used for PC board trace routing.", 8 NC "No Connection. Not internally connected. Can be used for PC board trace routing.", 9 VCC (power) "Supply Voltage Input, 3V to 5.5V. Bypass to GND with a 0.1uF capacitor. A 200ohm series resistor is recommended but not required for additional noise filtering.", 10 ADD1 (in) "SMBus Address Select Pin (Table 8). ADD0 and ADD1 are sampled upon power-up. Excess capacitance (>50pF) at the address pins when floating can cause addressrecognition problems.", 11 ADD0 (in) "SMBus Slave Address Select Pin", 12 ~{ALERT} (oc) "SMBus Alert (Interrupt) Output, Open Drain", 13 SMBDATA (io) "SMBus Serial-Data Input/Output, Open Drain", 14 SMBCLK (in) "SMBus Serial-Clock Input", 15 ~{STBY} (in) "Hardware Standby Input. Temperature and comparison threshold data are retained in standby mode. Low = standby mode, high = operate mode.", 16 GND (power) "Ground"

## MAX1805MEE+T
designator U?
Three-Channel Temperature Sensor with SMBus Serial Interface, 8 Bits Temperature Resolution, -55 to 125 degC, 16-Pin SOP (E16+1), Pb-Free, Tape and Reel; Generic Part Number: MAX1805; PartNumber: MAX1805MEE+T; Alarm Output: Alert; Functions: Remote & Local Sensor; Interface: 2-Wire/I2C/SMBus; Parasite Pwr.: No; DatasheetVersion: Rev. 2; PackageVersion: Rev. K, 04/2012; PackageReference: E16+1; PackageDescription: 16-Pin Quarter Small-Outline Package (E16+1), Body 4.90 x 3.89 mm, Pitch 0.635 mm; Supplier 1: Digi-Key; Supplier Part Number 1: MAX1805MEE+T-ND; Supplier 2: Mouser; Supplier Part Number 2: 700-MAX1805MEET; Packing: Tape and Reel; Mounting Technology: Surface Mount; Code_JEDEC: MO137; ComponentLink1Description: Manufacturer URL; ComponentLink1URL: http://www.maximintegrated.com/; ComponentLink2Description: Datasheet; ComponentLink2URL: http://datasheets.maximintegrated.com/en/ds/MAX1668-MAX1989.pdf; ComponentLink3Description: Package Specification; ComponentLink3URL: http://pdfserv.maximintegrated.com/package_dwgs/21-0055.PDF
footprint MAXM-E16+1_N (SOP, 16-Leads, Body 4.9x3.89mm, Pitch 0.635mm, IPC Medium Density)
footprint MAXM-E16+1_L (SOP, 16-Leads, Body 4.9x3.89mm, Pitch 0.635mm, IPC High Density)
footprint MAXM-E16+1_M (SOP, 16-Leads, Body 4.9x3.89mm, Pitch 0.635mm, IPC Low Density)
pins: 1 DXP1 "Combined Current Source and A/D Positive Input for Remote-Diode Channel. Do not leave DXP floating; connect DXP to DXN if no remote diode is used. Place a 2200pF capacitor between DXP and DXN for noise filtering.", 2 DXN1 "Combined Current Sink and A/D Negative Input. DXN is normally biased to a diode voltage above ground.", 3 DXP2 "Combined Current Source and A/D Positive Input for Remote-Diode Channel. Do not leave DXP floating; connect DXP to DXN if no remote diode is used. Place a 2200pF capacitor between DXP and DXN for noise filtering.", 4 DXN2 "Combined Current Sink and A/D Negative Input. DXN is normally biased to a diode voltage above ground.", 5 NC "No Connection. Not internally connected. Can be used for PC board trace routing.", 6 NC "No Connection. Not internally connected. Can be used for PC board trace routing.", 7 NC "No Connection. Not internally connected. Can be used for PC board trace routing.", 8 NC "No Connection. Not internally connected. Can be used for PC board trace routing.", 9 VCC (power) "Supply Voltage Input, 3V to 5.5V. Bypass to GND with a 0.1uF capacitor. A 200ohm series resistor is recommended but not required for additional noise filtering.", 10 ADD1 (in) "SMBus Address Select Pin (Table 8). ADD0 and ADD1 are sampled upon power-up. Excess capacitance (>50pF) at the address pins when floating can cause addressrecognition problems.", 11 ADD0 (in) "SMBus Slave Address Select Pin", 12 ~{ALERT} (oc) "SMBus Alert (Interrupt) Output, Open Drain", 13 SMBDATA (io) "SMBus Serial-Data Input/Output, Open Drain", 14 SMBCLK (in) "SMBus Serial-Clock Input", 15 ~{STBY} (in) "Hardware Standby Input. Temperature and comparison threshold data are retained in standby mode. Low = standby mode, high = operate mode.", 16 GND (power) "Ground"

## MAX1805MEE-T
designator U?
Three-Channel Temperature Sensor with SMBus Serial Interface, 8 Bits Temperature Resolution, -55 to 125 degC, 16-Pin SOP (E16-1), Tape and Reel; Generic Part Number: MAX1805; PartNumber: MAX1805MEE-T; Alarm Output: Alert; Functions: Remote & Local Sensor; Interface: 2-Wire/I2C/SMBus; Parasite Pwr.: No; DatasheetVersion: Rev. 2; PackageVersion: Rev. K, 04/2012; PackageReference: E16-1; PackageDescription: 16-Pin Quarter Small-Outline Package (E16-1), Body 4.90 x 3.89 mm, Pitch 0.635 mm; Supplier 1: Mouser; Supplier Part Number 1: N/A; Packing: Tape and Reel; Mounting Technology: Surface Mount; Code_JEDEC: MO137; ComponentLink1Description: Manufacturer URL; ComponentLink1URL: http://www.maximintegrated.com/; ComponentLink2Description: Datasheet; ComponentLink2URL: http://datasheets.maximintegrated.com/en/ds/MAX1668-MAX1989.pdf; ComponentLink3Description: Package Specification; ComponentLink3URL: http://pdfserv.maximintegrated.com/package_dwgs/21-0055.PDF
footprint MAXM-E16-1_N (SOP, 16-Leads, Body 4.9x3.89mm, Pitch 0.635mm, IPC Medium Density)
footprint MAXM-E16-1_L (SOP, 16-Leads, Body 4.9x3.89mm, Pitch 0.635mm, IPC High Density)
footprint MAXM-E16-1_M (SOP, 16-Leads, Body 4.9x3.89mm, Pitch 0.635mm, IPC Low Density)
pins: 1 DXP1 "Combined Current Source and A/D Positive Input for Remote-Diode Channel. Do not leave DXP floating; connect DXP to DXN if no remote diode is used. Place a 2200pF capacitor between DXP and DXN for noise filtering.", 2 DXN1 "Combined Current Sink and A/D Negative Input. DXN is normally biased to a diode voltage above ground.", 3 DXP2 "Combined Current Source and A/D Positive Input for Remote-Diode Channel. Do not leave DXP floating; connect DXP to DXN if no remote diode is used. Place a 2200pF capacitor between DXP and DXN for noise filtering.", 4 DXN2 "Combined Current Sink and A/D Negative Input. DXN is normally biased to a diode voltage above ground.", 5 NC "No Connection. Not internally connected. Can be used for PC board trace routing.", 6 NC "No Connection. Not internally connected. Can be used for PC board trace routing.", 7 NC "No Connection. Not internally connected. Can be used for PC board trace routing.", 8 NC "No Connection. Not internally connected. Can be used for PC board trace routing.", 9 VCC (power) "Supply Voltage Input, 3V to 5.5V. Bypass to GND with a 0.1uF capacitor. A 200ohm series resistor is recommended but not required for additional noise filtering.", 10 ADD1 (in) "SMBus Address Select Pin (Table 8). ADD0 and ADD1 are sampled upon power-up. Excess capacitance (>50pF) at the address pins when floating can cause addressrecognition problems.", 11 ADD0 (in) "SMBus Slave Address Select Pin", 12 ~{ALERT} (oc) "SMBus Alert (Interrupt) Output, Open Drain", 13 SMBDATA (io) "SMBus Serial-Data Input/Output, Open Drain", 14 SMBCLK (in) "SMBus Serial-Clock Input", 15 ~{STBY} (in) "Hardware Standby Input. Temperature and comparison threshold data are retained in standby mode. Low = standby mode, high = operate mode.", 16 GND (power) "Ground"

## MAX1989MEE
designator U?
Five-Channel Temperature Sensor with SMBus Serial Interface, 8 Bits Temperature Resolution, -55 to 125 degC, 16-Pin SOP (E16-1); Generic Part Number: MAX1989; PartNumber: MAX1989MEE; Alarm Output: Alert; Functions: Remote & Local Sensor; Interface: 2-Wire/I2C/SMBus; Parasite Pwr.: No; DatasheetVersion: Rev. 2; PackageVersion: Rev. K, 04/2012; PackageReference: E16-1; PackageDescription: 16-Pin Quarter Small-Outline Package (E16-1), Body 4.90 x 3.89 mm, Pitch 0.635 mm; Supplier 1: Mouser; Supplier Part Number 1: N/A; Mounting Technology: Surface Mount; Code_JEDEC: MO137; ComponentLink1Description: Manufacturer URL; ComponentLink1URL: http://www.maximintegrated.com/; ComponentLink2Description: Datasheet; ComponentLink2URL: http://datasheets.maximintegrated.com/en/ds/MAX1668-MAX1989.pdf; ComponentLink3Description: Package Specification; ComponentLink3URL: http://pdfserv.maximintegrated.com/package_dwgs/21-0055.PDF
footprint MAXM-E16-1_N (SOP, 16-Leads, Body 4.9x3.89mm, Pitch 0.635mm, IPC Medium Density)
footprint MAXM-E16-1_L (SOP, 16-Leads, Body 4.9x3.89mm, Pitch 0.635mm, IPC High Density)
footprint MAXM-E16-1_M (SOP, 16-Leads, Body 4.9x3.89mm, Pitch 0.635mm, IPC Low Density)
pins: 1 DXP1 "Combined Current Source and A/D Positive Input for Remote-Diode Channel. Do not leave DXP floating; connect DXP to DXN if no remote diode is used. Place a 2200pF capacitor between DXP and DXN for noise filtering.", 2 DXN1 "Combined Current Sink and A/D Negative Input. DXN is normally biased to a diode voltage above ground.", 3 DXP2 "Combined Current Source and A/D Positive Input for Remote-Diode Channel. Do not leave DXP floating; connect DXP to DXN if no remote diode is used. Place a 2200pF capacitor between DXP and DXN for noise filtering.", 4 DXN2 "Combined Current Sink and A/D Negative Input. DXN is normally biased to a diode voltage above ground.", 5 DXP3 "Combined Current Source and A/D Positive Input for Remote-Diode Channel. Do not leave DXP floating; connect DXP to DXN if no remote diode is used. Place a 2200pF capacitor between DXP and DXN for noise filtering.", 6 DXN3 "Combined Current Sink and A/D Negative Input. DXN is normally biased to a diode voltage above ground.", 7 DXP4 "Combined Current Source and A/D Positive Input for Remote-Diode Channel. Do not leave DXP floating; connect DXP to DXN if no remote diode is used. Place a 2200pF capacitor between DXP and DXN for noise filtering.", 8 DXN4 "Combined Current Sink and A/D Negative Input. DXN is normally biased to a diode voltage above ground.", 9 VCC (power) "Supply Voltage Input, 3V to 5.5V. Bypass to GND with a 0.1uF capacitor. A 200ohm series resistor is recommended but not required for additional noise filtering.", 10 ADD1 (in) "SMBus Address Select Pin (Table 8). ADD0 and ADD1 are sampled upon power-up. Excess capacitance (>50pF) at the address pins when floating can cause addressrecognition problems.", 11 ADD0 (in) "SMBus Slave Address Select Pin", 12 ~{ALERT} (oc) "SMBus Alert (Interrupt) Output, Open Drain", 13 SMBDATA (io) "SMBus Serial-Data Input/Output, Open Drain", 14 SMBCLK (in) "SMBus Serial-Clock Input", 15 ~{STBY} (in) "Hardware Standby Input. Temperature and comparison threshold data are retained in standby mode. Low = standby mode, high = operate mode.", 16 GND (power) "Ground"